# EAGLE library part XMC4700/XMC4800-144 (library INF-XMC)
Infineon XMC4500 144Pin LQFP ARM Cortex M4
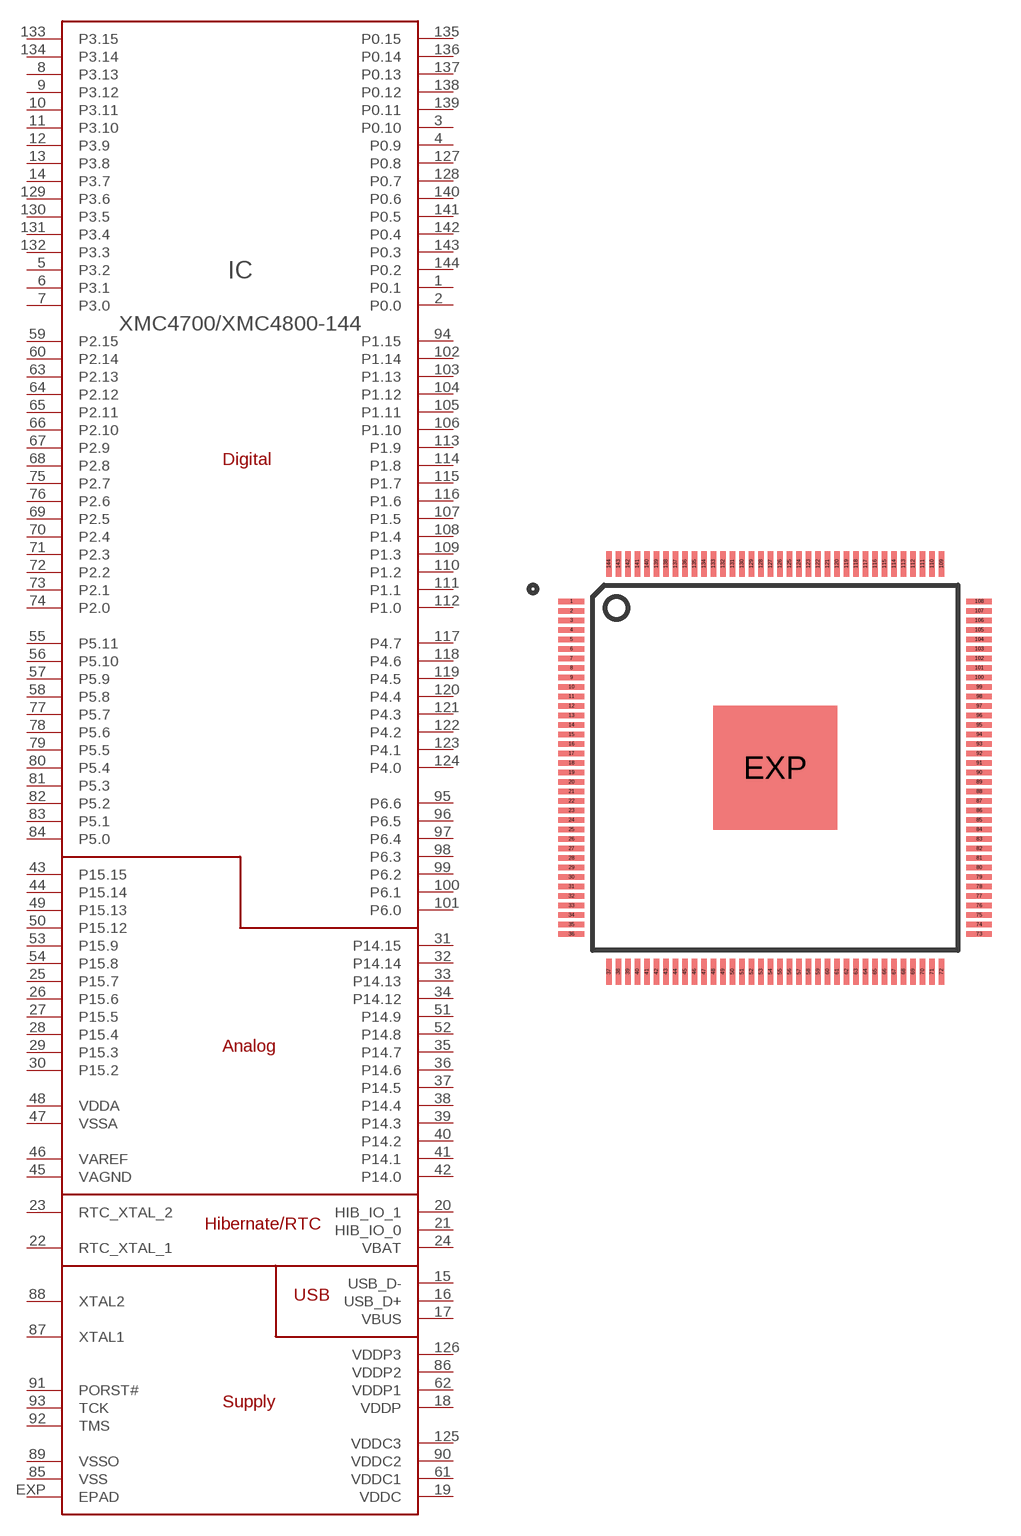
[diagram p3: symbol with the pads of QFP-144; footprint QFP-144]

Designator prefix IC

## XMC4700/XMC4800-144QFP  [QFP-144]
1  P0.1
2  P0.0
3  P0.10
4  P0.9
5  P3.2
6  P3.1
7  P3.0
8  P3.13
9  P3.12
10  P3.11
11  P3.10
12  P3.9
13  P3.8
14  P3.7
15  USB_D-
16  USB_D+
17  VBUS
18  VDDP
19  VDDC
20  HIB_IO_1
21  HIB_IO_0
22  RTC_XTAL_1
23  RTC_XTAL_2
24  VBAT
25  P15.7
26  P15.6
27  P15.5
28  P15.4
29  P15.3
30  P15.2
31  P14.15
32  P14.14
33  P14.13
34  P14.12
35  P14.7
36  P14.6
37  P14.5
38  P14.4
39  P14.3
40  P14.2
41  P14.1
42  P14.0
43  P15.15
44  P15.14
45  VAGND
46  VAREF
47  VSSA
48  VDDA
49  P15.13
50  P15.12
51  P14.9
52  P14.8
53  P15.9
54  P15.8
55  P5.11
56  P5.10
57  P5.9
58  P5.8
59  P2.15
60  P2.14
61  VDDC1
62  VDDP1
63  P2.13
64  P2.12
65  P2.11
66  P2.10
67  P2.9
68  P2.8
69  P2.5
70  P2.4
71  P2.3
72  P2.2
73  P2.1
74  P2.0
75  P2.7
76  P2.6
77  P5.7
78  P5.6
79  P5.5
80  P5.4
81  P5.3
82  P5.2
83  P5.1
84  P5.0
85  VSS
86  VDDP2
87  XTAL1
88  XTAL2
89  VSSO
90  VDDC2
91  PORST#
92  TMS
93  TCK
94  P1.15
95  P6.6
96  P6.5
97  P6.4
98  P6.3
99  P6.2
100  P6.1
101  P6.0
102  P1.14
103  P1.13
104  P1.12
105  P1.11
106  P1.10
107  P1.5
108  P1.4
109  P1.3
110  P1.2
111  P1.1
112  P1.0
113  P1.9
114  P1.8
115  P1.7
116  P1.6
117  P4.7
118  P4.6
119  P4.5
120  P4.4
121  P4.3
122  P4.2
123  P4.1
124  P4.0
125  VDDC3
126  VDDP3
127  P0.8
128  P0.7
129  P3.6
130  P3.5
131  P3.4
132  P3.3
133  P3.15
134  P3.14
135  P0.15
136  P0.14
137  P0.13
138  P0.12
139  P0.11
140  P0.6
141  P0.5
142  P0.4
143  P0.3
144  P0.2
EXP  EPAD

## Footprint QFP-144 (pad centres in mm)
QFP-144 0.5mm pitch Tie exposed pad with approx. 0.2mm thermal vias to GND PG-LQFP-144-18, leadframe no: C66065-A7014-C009-01-004 EPad: 6.5 x 6.5 mm LQFP-144 package with 6.5 x 6.5mm Exposed Pad
smd 1.35 x 0.29: 1 -10.725,8.75; 2 -10.725,8.25; 3 -10.725,7.75; 4 -10.725,7.25; 5 -10.725,6.75; 6 -10.725,6.25; 7 -10.725,5.75; 8 -10.725,5.25; 9 -10.725,4.75; 10 -10.725,4.25; 11 -10.725,3.75; 12 -10.725,3.25; 13 -10.725,2.75; 14 -10.725,2.25; 15 -10.725,1.75; 16 -10.725,1.25; 17 -10.725,0.75; 18 -10.725,0.25; 19 -10.725,-0.25; 20 -10.725,-0.75; 21 -10.725,-1.25; 22 -10.725,-1.75; 23 -10.725,-2.25; 24 -10.725,-2.75; 25 -10.725,-3.25; 26 -10.725,-3.75; 27 -10.725,-4.25; 28 -10.725,-4.75; 29 -10.725,-5.25; 30 -10.725,-5.75; 31 -10.725,-6.25; 32 -10.725,-6.75; 33 -10.725,-7.25; 34 -10.725,-7.75; 35 -10.725,-8.25; 36 -10.725,-8.75; 73 10.725,-8.75; 74 10.725,-8.25; 75 10.725,-7.75; 76 10.725,-7.25; 77 10.725,-6.75; 78 10.725,-6.25; 79 10.725,-5.75; 80 10.725,-5.25; 81 10.725,-4.75; 82 10.725,-4.25; 83 10.725,-3.75; 84 10.725,-3.25; 85 10.725,-2.75; 86 10.725,-2.25; 87 10.725,-1.75; 88 10.725,-1.25; 89 10.725,-0.75; 90 10.725,-0.25; 91 10.725,0.25; 92 10.725,0.75; 93 10.725,1.25; 94 10.725,1.75; 95 10.725,2.25; 96 10.725,2.75; 97 10.725,3.25; 98 10.725,3.75; 99 10.725,4.25; 100 10.725,4.75; 101 10.725,5.25; 102 10.725,5.75; 103 10.725,6.25; 104 10.725,6.75; 105 10.725,7.25; 106 10.725,7.75; 107 10.725,8.25; 108 10.725,8.75
smd 0.29 x 1.35: 37 -8.75,-10.725; 38 -8.25,-10.725; 39 -7.75,-10.725; 40 -7.25,-10.725; 41 -6.75,-10.725; 42 -6.25,-10.725; 43 -5.75,-10.725; 44 -5.25,-10.725; 45 -4.75,-10.725; 46 -4.25,-10.725; 47 -3.75,-10.725; 48 -3.25,-10.725; 49 -2.75,-10.725; 50 -2.25,-10.725; 51 -1.75,-10.725; 52 -1.25,-10.725; 53 -0.75,-10.725; 54 -0.25,-10.725; 55 0.25,-10.725; 56 0.75,-10.725; 57 1.25,-10.725; 58 1.75,-10.725; 59 2.25,-10.725; 60 2.75,-10.725; 61 3.25,-10.725; 62 3.75,-10.725; 63 4.25,-10.725; 64 4.75,-10.725; 65 5.25,-10.725; 66 5.75,-10.725; 67 6.25,-10.725; 68 6.75,-10.725; 69 7.25,-10.725; 70 7.75,-10.725; 71 8.25,-10.725; 72 8.75,-10.725; 109 8.75,10.725; 110 8.25,10.725; 111 7.75,10.725; 112 7.25,10.725; 113 6.75,10.725; 114 6.25,10.725; 115 5.75,10.725; 116 5.25,10.725; 117 4.75,10.725; 118 4.25,10.725; 119 3.75,10.725; 120 3.25,10.725; 121 2.75,10.725; 122 2.25,10.725; 123 1.75,10.725; 124 1.25,10.725; 125 0.75,10.725; 126 0.25,10.725; 127 -0.25,10.725; 128 -0.75,10.725; 129 -1.25,10.725; 130 -1.75,10.725; 131 -2.25,10.725; 132 -2.75,10.725; 133 -3.25,10.725; 134 -3.75,10.725; 135 -4.25,10.725; 136 -4.75,10.725; 137 -5.25,10.725; 138 -5.75,10.725; 139 -6.25,10.725; 140 -6.75,10.725; 141 -7.25,10.725; 142 -7.75,10.725; 143 -8.25,10.725; 144 -8.75,10.725
smd 6.5 x 6.5: EXP 0,0